# Altium schematic symbol library BBCMP-P8.Schlib: 1 symbol
Pins are listed as number, name and electrical type; pins without a type are passive.

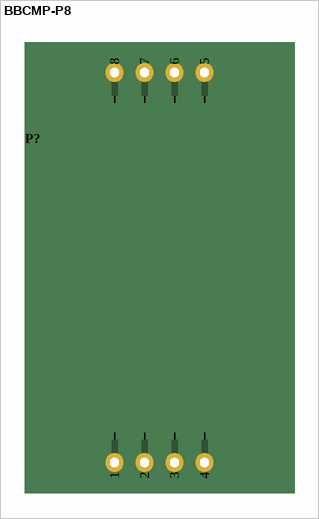
[diagram p0: symbol BBCMP-P8]

## BBCMP-P8
designator P?  (no BOM)
pins: 1, 2, 3, 4, 5, 6, 7, 8